# EAGLE library part 610X1421821 (library Board-to-Board (rev18a))
WR-PHD 2.54mm SMT Socket Header=>Code : Con_BTB_SHD_2.54_1_SMT_610x0421821(packageing:x = 0: Tube x = 3: Tape & Reel with Cap; 600 pcs/Reel) <http://katalog.we-online.de/media/images/eican/Con_BTB_SHD_2.54_1_SMT_6100xx21821_pf2.jpg> 6100xx21821 Details see: http://katalog.we-online.de/en/em/PHD_2_54_SMT_DUAL_SOCKET_HEADER_6100XX21821 6103xx21821 Details see: http://katalog.we-online.de/en/em/PHD_2_54_SMT_DUAL_SOCKET_HEADER_REEL_6103XX21821 2014 (C) Würth Elektronik
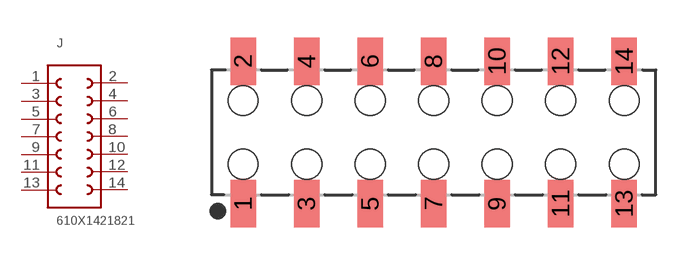
[diagram p205: symbol with the pads of 610X1421821; footprint 610X1421821]

Designator prefix J

## 610X1421821  [610X1421821]
1  1  pas
2  14  pas
3  2  pas
4  13  pas
5  3  pas
6  12  pas
7  4  pas
8  11  pas
9  5  pas
10  10  pas
11  6  pas
12  9  pas
13  7  pas
14  8  pas

## Footprint 610X1421821 (pad centres in mm)
WR-PHD 2.54mm Dual SMT Socket Header, 14 Pins
smd 1.02 x 1.9: 1 -7.62,-2.85; 2 -7.62,2.85; 3 -5.08,-2.85; 4 -5.08,2.85; 5 -2.54,-2.85; 6 -2.54,2.85; 7 0,-2.85; 8 0,2.85; 9 2.54,-2.85; 10 2.54,2.85; 11 5.08,-2.85; 12 5.08,2.85; 13 7.62,-2.85; 14 7.62,2.85
hole 1.2 at -7.62,-1.27
hole 1.2 at -5.08,-1.27
hole 1.2 at -5.08,1.27
hole 1.2 at -7.62,1.27
hole 1.2 at -2.54,-1.27
hole 1.2 at -2.54,1.27
hole 1.2 at 0,1.27
hole 1.2 at 0,-1.27
hole 1.2 at 2.54,-1.27
hole 1.2 at 2.54,1.27
hole 1.2 at 5.08,-1.27
hole 1.2 at 5.08,1.27
hole 1.2 at 7.62,1.27
hole 1.2 at 7.62,-1.27